# EAGLE library part MPU-6050 (library bc_custom)
IMU ACCEL/GYRO 3-AXIS I2C 24QFN
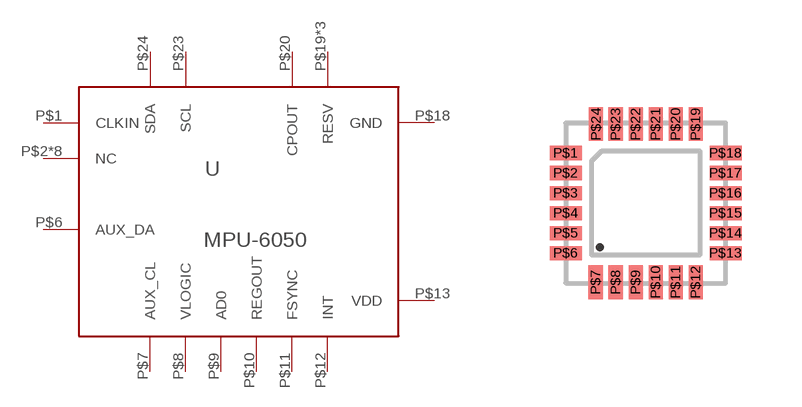
[diagram p6: symbol with the pads of MPU-6050; footprint MPU-6050]

Designator prefix U

## MPU-6050  [MPU-6050]
P$1  CLKIN
P$2  NC
P$3  NC
P$4  NC
P$5  NC
P$6  AUX_DA
P$7  AUX_CL
P$8  VLOGIC
P$9  AD0
P$10  REGOUT
P$11  FSYNC
P$12  INT
P$13  VDD
P$14  NC
P$15  NC
P$16  NC
P$17  NC
P$18  GND
P$19  RESV
P$20  CPOUT
P$21  RESV
P$22  RESV
P$23  SCL
P$24  SDA

## Footprint MPU-6050 (pad centres in mm)
smd 0.8 x 0.35: P$1 -2,1.25; P$2 -2,0.75; P$3 -2,0.25; P$4 -2,-0.25; P$5 -2,-0.75; P$6 -2,-1.25; P$13 2,-1.25; P$14 2,-0.75; P$15 2,-0.25; P$16 2,0.25; P$17 2,0.75; P$18 2,1.25
smd 0.35 x 0.85: P$7 -1.25,-1.975; P$8 -0.75,-1.975; P$9 -0.25,-1.975; P$10 0.25,-1.975; P$11 0.75,-1.975; P$12 1.25,-1.975; P$19 1.25,1.975; P$20 0.75,1.975; P$21 0.25,1.975; P$22 -0.25,1.975; P$23 -0.75,1.975; P$24 -1.24,1.975